# EAGLE library part STM32G030F (library _mtvl.stm32)
Arm® Cortex®-M0+ 32-bit MCU, up to 64 KB Flash, 8 KB RAM, 2x USART, timers, ADC, comm. I/Fs, 2.0-3.6V
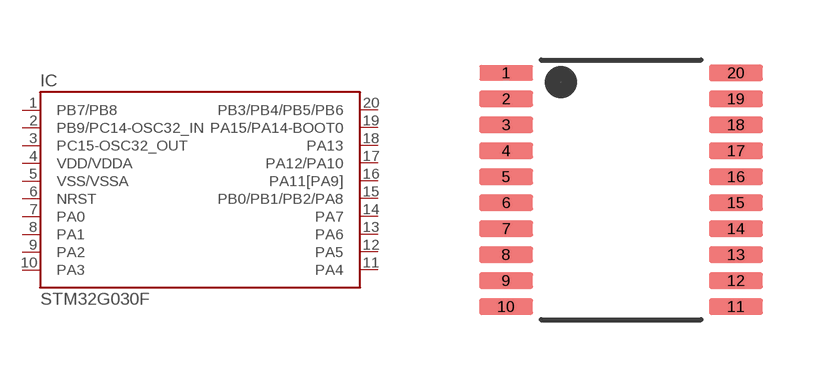
[diagram p0: symbol with the pads of TSSOP-20; footprint TSSOP-20]

Designator prefix IC

## STM32G030F  [TSSOP-20]
1  PB7/PB8
2  PB9/PC14-OSC32_IN
3  PC15-OSC32_OUT
4  VDD/VDDA  sup
5  VSS/VSSA  sup
6  NRST
7  PA0
8  PA1
9  PA2
10  PA3
11  PA4
12  PA5
13  PA6
14  PA7
15  PB0/PB1/PB2/PA8
16  PA11[PA9]
17  PA12/PA10
18  PA13
19  PA15/PA14-BOOT0
20  PB3/PB4/PB5/PB6

## Footprint TSSOP-20 (pad centres in mm)
smd 1.35 x 0.4: 1 -2.875,2.925; 2 -2.875,2.275; 3 -2.875,1.625; 4 -2.875,0.975; 5 -2.875,0.325; 6 -2.875,-0.325; 7 -2.875,-0.975; 8 -2.875,-1.625; 9 -2.875,-2.275; 10 -2.875,-2.925; 11 2.875,-2.925; 12 2.875,-2.275; 13 2.875,-1.625; 14 2.875,-0.975; 15 2.875,-0.325; 16 2.875,0.325; 17 2.875,0.975; 18 2.875,1.625; 19 2.875,2.275; 20 2.875,2.925